# Altium footprint library optocoupler.PCBLIB: 37 footprints (part 3 of 3)
Each footprint in its own frame and in the unit in brackets; x right, y up, seen from the top. Pads: shape width x height; smd on the part's side, far side on the other; paste and mask are expansions set on the pad; w line width, h text height; cw(c..) or ccw(c..) is an arc to the next point about the centre after c.
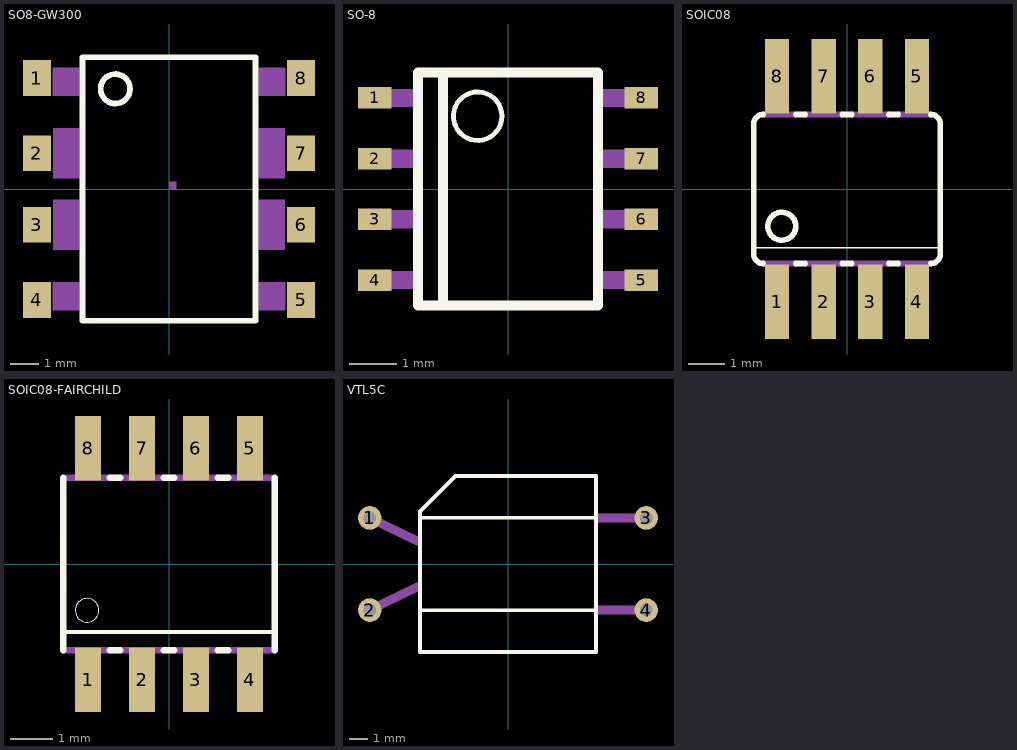
[diagram p2: the footprints below, top view; thin cyan lines are the x and y axes]

## SO8-GW300 [mm]
pads (8):
  rect 1x1.27 smd: 1(-4.69,3.937) 2(-4.69,1.27) 3(-4.69,-1.27) 4(-4.69,-3.937) 5(4.69,-3.937) 6(4.69,-1.27) 7(4.69,1.27) 8(4.69,3.937)
Top Overlay:
  circle w0.203: c-1.905,3.556 r0.523
  lines w0.203: -3.073,-4.678 3.073,-4.678 3.073,4.678 -3.073,4.678 -3.073,-4.678
Mechanical 16:
  rectangle: -4.127,3.302 -3.175,4.318
  rectangle: -4.115,0.381 -3.175,2.159
  rectangle: -4.826,3.658 -4.445,4.318
  rectangle: -4.813,0.94 -4.432,1.6
  rectangle: -4.115,-2.159 -3.175,-0.381
  rectangle: -4.813,-1.6 -4.432,-0.94
  rectangle: -4.127,-4.318 -3.175,-3.302
  rectangle: -4.826,-4.318 -4.445,-3.658
  region: 4.127,-3.302 3.175,-3.302 3.175,-4.318 4.127,-4.318
  region: 4.115,-0.381 3.175,-0.381 3.175,-2.159 4.115,-2.159
  region: 4.826,-3.658 4.445,-3.658 4.445,-4.318 4.826,-4.318
  region: 4.813,-0.94 4.432,-0.94 4.432,-1.6 4.813,-1.6
  region: 4.115,2.159 3.175,2.159 3.175,0.381 4.115,0.381
  region: 4.813,1.6 4.432,1.6 4.432,0.94 4.813,0.94
  region: 4.127,4.318 3.175,4.318 3.175,3.302 4.127,3.302
  region: 4.826,4.318 4.445,4.318 4.445,3.658 4.826,3.658
  region: 0,0 0.254,0 0.254,0.254 0,0.254
  region: 0,0 0.254,0 0.254,0.254 0,0.254
  region: 0,0 0.254,0 0.254,0.254 0,0.254
  region: 0,0 0.254,0 0.254,0.254 0,0.254
  region: 0,0 0.254,0 0.254,0.254 0,0.254
  region: 0,0 0.254,0 0.254,0.254 0,0.254
  region: 0,0 0.254,0 0.254,0.254 0,0.254
  region: 0,0 0.254,0 0.254,0.254 0,0.254

## SO-8 [mil]
pads (8):
  rect 27.56x17.72 smd: 1(-109.84,75) 2(-109.84,25) 3(-109.84,-25) 4(-109.84,-75) 5(109.84,-75) 6(109.84,-25) 7(109.84,25) 8(109.84,75)
Top Overlay:
  circle w4: c-25,60 r20
  lines w8: -53.62,-95 -53.62,96 ; -53.62,96 74.21,96 74.21,-96 -74.21,-96 -74.21,96 -53.62,96
Mechanical 16:
  rectangle: -115,67.5 -78.21,82.5
  rectangle: -115,17.5 -78.21,32.5
  rectangle: -115,-32.5 -78.21,-17.5
  rectangle: -115,-82.5 -78.21,-67.5
  rectangle: 78.21,-82.5 115,-67.5
  rectangle: 78.21,-32.5 115,-17.5
  rectangle: 78.21,17.5 115,32.5
  rectangle: 78.21,67.5 115,82.5

## SOIC08 [mil]
pads (8):
  rect 26x80 smd: 1(-75,-121) 2(-25,-121) 3(25,-121) 4(75,-121) 5(75,121) 6(25,121) 7(-25,121) 8(-75,121)
Top Overlay:
  circle w6: c-70,-40 r15
  lines w2: -100,-63 100,-63
  lines w6: -90,-80 cw(c-90,-70) -100,-70 -100,70 cw(c-90,70) -90,80 ; -55,-80 -45,-80 ; -55,80 -45,80 ; -5,-80 5,-80 ; -5,80 5,80 ; 45,-80 55,-80 ; 45,80 55,80 ; 90,-80 ccw(c90,-70) 100,-70 100,70 ccw(c90,70) 90,80
Mechanical 16:
  rectangle: 65,77 85,122
  rectangle: -85,-122 -65,-77
  rectangle: -35,-122 -15,-77
  rectangle: 15,-122 35,-77
  rectangle: 65,-122 85,-77
  rectangle: 15,77 35,122
  rectangle: -35,77 -15,122
  rectangle: -85,77 -65,122
  lines w6: -90,-80 -55,-80 ; -90,80 -55,80 ; -45,-80 -5,-80 ; -45,80 -5,80 ; 5,-80 45,-80 ; 5,80 45,80 ; 55,-80 90,-80 ; 55,80 90,80

## SOIC08-FAIRCHILD [mil]
pads (8):
  rect 24.02x59.84 smd: 1(-75,-107.22) 2(-25,-107.22) 3(25,-107.22) 4(75,-107.22) 5(75,107.22) 6(25,107.22) 7(-25,107.22) 8(-75,107.22)
Top Overlay:
  circle w0: c-75.91,-42.95 r11.02
  lines w4: -98.03,-63 98.03,-63
  lines w6: -98.03,-79.84 -98.03,-63 -98.03,79.84 ; -55,-80 -45,-80 ; -55,80 -45,80 ; -5,-80 5,-80 ; -5,80 5,80 ; 45,-80 55,-80 ; 45,80 55,80 ; 98.03,-79.84 98.03,-63 98.03,79.84
Top Paste:
  rectangle: -85,-134 -65,-80
  rectangle: -35,-134 -15,-80
  rectangle: 15,-134 35,-80
  rectangle: 65,-134 85,-80
  region: 85,134 65,134 65,80 85,80
  region: 35,134 15,134 15,80 35,80
  region: -15,134 -35,134 -35,80 -15,80
  region: -65,134 -85,134 -85,80 -65,80
Top Solder:
  rectangle: -89,-139 -61,-75
  rectangle: -39,-139 -11,-75
  rectangle: 11,-139 39,-75
  rectangle: 61,-139 89,-75
  region: 89,139 61,139 61,75 89,75
  region: 39,139 11,139 11,75 39,75
  region: -11,139 -39,139 -39,75 -11,75
  region: -61,139 -89,139 -89,75 -61,75
Mechanical 16:
  rectangle: 65,79.72 85,122
  rectangle: -85,-122 -65,-79.72
  rectangle: -35,-122 -15,-79.72
  rectangle: 15,-122 35,-79.72
  rectangle: 65,-122 85,-79.72
  rectangle: 15,79.72 35,122
  rectangle: -35,79.72 -15,122
  rectangle: -85,79.72 -65,122
  lines w6: -97.87,-80 -55,-80 ; -94.92,80 -55,80 ; -45,-80 -5,-80 ; -45,80 -5,80 ; 5,-80 45,-80 ; 5,80 45,80 ; 55,-80 97.87,-80 ; 55,80 94.92,80

## VTL5C [mil]
pads (4):
  round 51.18 hole 27.56: 1(-300,100) 2(-300,-100) 3(300,100) 4(300,-100)
Top Overlay:
  lines w8: -187.01,-100.39 187.01,-100.39 ; -187.01,100.39 187.01,100.39 ; -190.94,-190.94 190.94,-190.94 190.94,190.94 -114.17,190.94 -190.94,114.17 -190.94,-190.94
Mechanical 16:
  lines w19.69: -300,-100 -196.85,-50.2 ; -300,100 -196.85,50.2 ; 197.24,-100 300,-100 ; 197.24,100 300,100